# Altium footprint library SILABS_Footprints.PcbLib: 1 footprints
Each footprint in its own frame and in the unit in brackets; x right, y up, seen from the top. Pads: shape width x height; smd on the part's side, far side on the other; paste and mask are expansions set on the pad; w line width, h text height; cw(c..) or ccw(c..) is an arc to the next point about the centre after c.
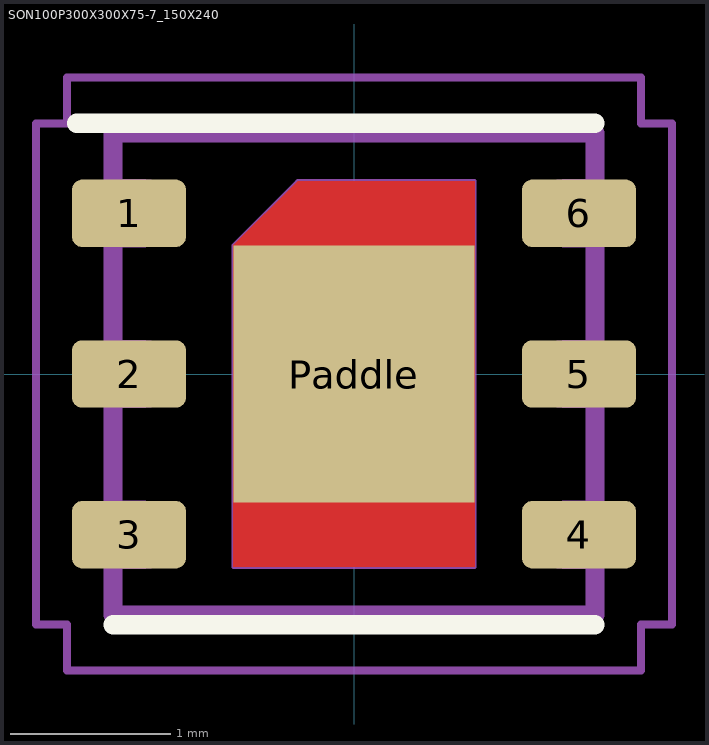
[diagram p0: the footprint, top view; thin cyan lines are the x and y axes]

## SON100P300X300X75-7_150X240 [mm] "IPC-7351C"
height 75
pads (7):
  rrect30% 0.71x0.42 smd: 1(-1.4,1) 2(-1.4,0) 3(-1.4,-1) 4(1.4,-1) 5(1.4,0) 6(1.4,1)
  rect 1.5x1.6 smd paste-1.6 mask-1.6: Paddle(0,0)
Top Layer:
  region: -0.75,-1.2 -0.75,0.8 -0.35,1.2 0.75,1.2 0.75,-1.2
Top Overlay:
  lines w0.12: -1.725,1.56 1.5,1.56 ; -1.5,-1.56 1.5,-1.56
Top Paste:
  region: -0.485,-1.02 -0.485,-0.09 0.485,-0.09 0.485,-1.02
  region: -0.485,0.09 -0.485,1.02 0.485,1.02 0.485,0.09
Top Solder:
  region: -0.75,-1.2 -0.75,0.8 -0.35,1.2 0.75,1.2 0.75,-1.2
Mechanical 11:
  lines w0.12: -1.5,-1.5 -1.5,1.5 1.5,1.5 1.5,-1.5 -1.5,-1.5
Mechanical 12:
  lines w0.025: -1.5,-1.2 -1.3,-1.2 ccw(c-1.3,-1) -1.3,-0.8 -1.5,-0.8 ; -1.5,-0.2 -1.3,-0.2 ccw(c-1.3,0) -1.3,0.2 -1.5,0.2 ; -1.5,0.8 -1.3,0.8 ccw(c-1.3,1) -1.3,1.2 -1.5,1.2 ; 1.5,-1.2 1.3,-1.2 cw(c1.3,-1) 1.3,-0.8 1.5,-0.8 ; 1.5,-0.2 1.3,-0.2 cw(c1.3,0) 1.3,0.2 1.5,0.2 ; 1.5,0.8 1.3,0.8 cw(c1.3,1) 1.3,1.2 1.5,1.2 ; -1.5,-1.5 -1.5,1.5 1.5,1.5 1.5,-1.5 -1.5,-1.5 ; -0.75,-1.2 -0.75,0.8 -0.35,1.2 0.75,1.2 0.75,-1.2 -0.75,-1.2
Mechanical 15:
  circle w0.05: c0,0 r0.25
  lines w0.05: -0.35,0 0.35,0 ; 0,-0.35 0,0.35 ; -1.98,-1.56 -1.98,1.56 -1.785,1.56 -1.785,1.845 1.785,1.845 1.785,1.56 1.98,1.56 1.98,-1.56 1.785,-1.56 1.785,-1.845 -1.785,-1.845 -1.785,-1.56 -1.98,-1.56
Mechanical 16:
  text "'.Designator'" at 0,0 h1.2
3D body "SON7P100_300X300X80L40X40T240X150.STEP": height 0.8, standoff 0, extent -1.55,-1.5 1.55,1.5